# Altium footprint library wristband4.PcbLib: 8 footprints
Each footprint in its own frame and in the unit in brackets; x right, y up, seen from the top. Pads: shape width x height; smd on the part's side, far side on the other; paste and mask are expansions set on the pad; w line width, h text height; cw(c..) or ccw(c..) is an arc to the next point about the centre after c.
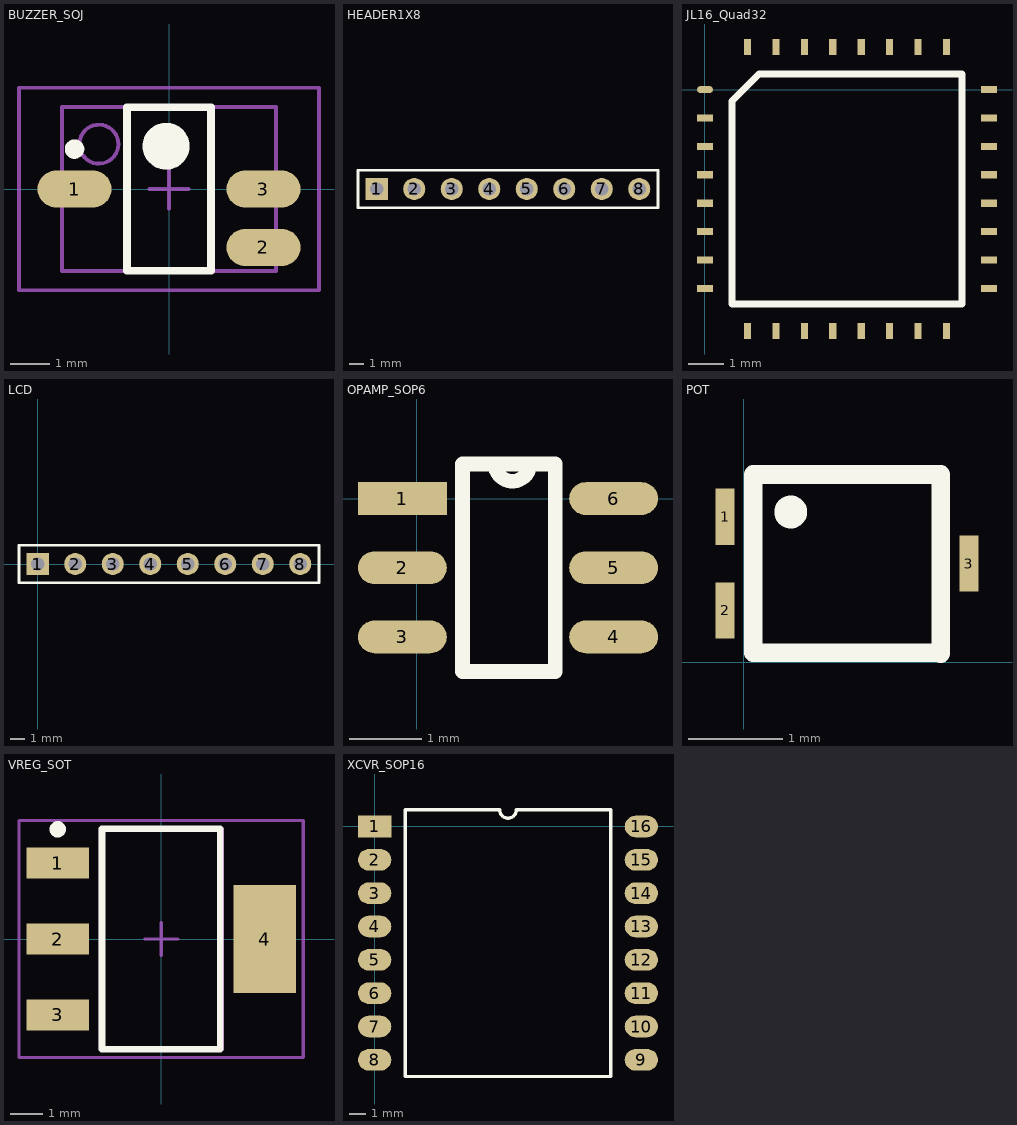
[diagram p0: the footprints below, top view; thin cyan lines are the x and y axes]

## BUZZER_SOJ [mm] "SOJ, 3-Leads, Body 4.2x5.5mm (max), Pitch 1.50mm, IPC Low Density"
height 2.1
pads (3):
  oval 1.9x0.95 smd: 1(-2.425,0) 2(2.425,-1.5) 3(2.425,0)
Top Overlay:
  circle w0.6: c-0.075,1.1 r0.3
  circle w0.25: c-2.425,1.025 r0.125
  lines w0.2: -1.075,-2.1 1.075,-2.1 1.075,2.1 -1.075,2.1 -1.075,-2.1
Mechanical 13:
  circle w0.1: c-1.8,1.15 r0.5
  lines w0.1: -2.75,-2.1 2.75,-2.1 2.75,2.1 -2.75,2.1 -2.75,-2.1
Mechanical 15:
  lines w0.1: -0.5,0 0.5,0 ; 0,-0.5 0,0.5 ; -3.85,-2.6 3.85,-2.6 3.85,2.6 -3.85,2.6 -3.85,-2.6
3D body: height 2.12, standoff 1.02, extent 1.202,0.5 2.198,1.498
3D body: height 2.1, standoff 0.64, extent -2.75,-2.1 2.75,2.1

## HEADER1X8 [mm]
pads (8):
  rect 1.5x1.5 hole 0.9: 1(233.413,-47.116)
  round 1.5 hole 0.9: 2(235.953,-47.116) 3(238.493,-47.116) 4(241.033,-47.116) 5(243.573,-47.116) 6(246.113,-47.116) 7(248.653,-47.116) 8(251.193,-47.116)
Top Overlay:
  lines w0.2: 232.143,-48.386 252.463,-48.386 252.463,-45.846 232.143,-45.846 232.143,-48.386

## JL16_Quad32 [mm]
height 1.6
pads (32):
  oval 0.45x0.2 smd: 1(0,0)
  rect 0.45x0.2 smd: 2(0,-0.8) 3(0,-1.6) 4(0,-2.4) 5(0,-3.2) 6(0,-4) 7(0,-4.8) 8(0,-5.6) 17(8,-5.6) 18(8,-4.8) 19(8,-4) 20(8,-3.2) 21(8,-2.4) 22(8,-1.6) 23(8,-0.8) 24(8,0)
  rect 0.2x0.45 smd: 9(1.2,-6.8) 10(2,-6.8) 11(2.8,-6.8) 12(3.6,-6.8) 13(4.4,-6.8) 14(5.2,-6.8) 15(6,-6.8) 16(6.8,-6.8) 25(6.8,1.2) 26(6,1.2) 27(5.2,1.2) 28(4.4,1.2) 29(3.6,1.2) 30(2.8,1.2) 31(2,1.2) 32(1.2,1.2)
Top Overlay:
  lines w0.2: 0.76,-6.04 7.24,-6.04 7.24,0.44 1.52,0.44 0.76,-0.32 0.76,-6.04
3D body: height 1.6, standoff 0, extent 0.3,-6.5 7.7,0.9

## LCD [mm] "Connector; Header; 8 Position"
pads (8):
  rect 1.5x1.5 hole 0.9: 1(0,0)
  round 1.5 hole 0.9: 2(2.54,0) 3(5.08,0) 4(7.62,0) 5(10.16,0) 6(12.7,0) 7(15.24,0) 8(17.78,0)
Top Overlay:
  lines w0.2: -1.27,-1.27 -1.27,1.27 19.05,1.27 19.05,-1.27 -1.27,-1.27
3D body: height 1, standoff 0, extent -0.375,39.702 1.219,41.298
3D body: height 1, standoff 0, extent 2.206,39.727 3.8,41.323
3D body: height 1, standoff 0, extent 5.128,39.725 6.722,41.322
3D body: height 1, standoff 0, extent 7.981,39.677 9.575,41.273
3D body: height 1, standoff 0, extent 10.803,39.7 12.397,41.297
3D body: height 1, standoff 0, extent 13.656,39.702 15.25,41.298
3D body: height 1, standoff 0, extent 16.628,39.725 18.222,41.322
3D body: height 1, standoff 0, extent -0.7,-0.8 0.894,0.797
3D body: height 1, standoff 0, extent 1.754,-0.8 3.348,0.797
3D body: height 1, standoff 0, extent 4.25,-0.8 5.844,0.797
3D body: height 1, standoff 0, extent 6.829,-0.8 8.423,0.797
3D body: height 1, standoff 0, extent 9.375,-0.8 10.969,0.797
3D body: height 1, standoff 0, extent 11.904,-0.775 13.498,0.822
3D body: height 1, standoff 0, extent 14.408,-0.822 16.002,0.775
3D body: height 1, standoff 0, extent 17.004,-0.8 18.598,0.797
3D body: height 1, standoff 0, extent -1,39.5 19,41.5
3D body: height 3.01, standoff 0, extent -9,11 27,38
3D body: height 3, standoff 0, extent -10,3 28,39
3D body: height 1, standoff 0, extent -13,-3 31,42
3D body: height 1, standoff 0, extent -1,-1 19,1
3D body: height 1, standoff 0, extent -0.7,-0.8 18.7,0.8
3D body: height 1, standoff 0, extent -0.7,39.7 18.7,41.3

## OPAMP_SOP6 [mm]
height 1
pads (6):
  rect 1.22x0.45 smd: 1(-0.2,0)
  oval 1.22x0.45 smd: 2(-0.2,-0.95) 3(-0.2,-1.9) 4(2.7,-1.9) 5(2.7,-0.95) 6(2.7,0)
Top Overlay:
  lines w0.2: 0.625,-2.375 1.9,-2.375 1.9,0.475 1.072,0.475 ccw(c1.31,0.475) 1.548,0.475 0.625,0.475 0.625,-2.375
3D body: height 1, standoff 0, extent 0.5,-2.5 2,0.6

## POT [mm] "490-2034-2-ND"
height 0.8
pads (3):
  rect 0.2x0.6 smd: 1(-0.2,1.55) 2(-0.2,0.55) 3(2.4,1.05)
Top Overlay:
  circle w0.25: c0.5,1.6 r0.05
  lines w0.2: 2.1,0.091 2.1,1.996 ; 2.1,0.1 0.1,0.1 0.1,2 2.1,2
3D body: height 0.8, standoff 0, extent 0.55,0.4 1.9,1.7
3D body: height 0.5, standoff 0, extent 0,0 2.2,2.1
3D body: height 0.8, standoff 0, extent 0.3,0.2 2.093,1.996
3D body: height 0.5, standoff 0, extent -0.2,1.3 0,1.8
3D body: height 0.5, standoff 0, extent -0.2,0.3 0,0.8
3D body: height 0.5, standoff 0, extent 2.2,0.8 2.4,1.3

## VREG_SOT [mm] "SOT223, 4-Leads, Body 6.7x7.3mm (max), Pitch 2.31mm, IPC Medium Density"
height 1.803
pads (4):
  rect 1.9x0.95 smd: 1(-3.15,2.311) 2(-3.15,0) 3(-3.15,-2.311)
  rect 1.9x3.3 smd: 4(3.15,0)
Top Overlay:
  circle w0.25: c-3.15,3.336 r0.125
  lines w0.2: -1.8,-3.353 1.8,-3.353 1.8,3.353 -1.8,3.353 -1.8,-3.353
Mechanical 13:
  lines w0.1: -1.854,-3.353 1.854,-3.353 1.854,3.353 -1.854,3.353 -1.854,-3.353
Mechanical 15:
  lines w0.1: -0.5,0 0.5,0 ; 0,-0.5 0,0.5 ; -4.325,-3.603 4.325,-3.603 4.325,3.603 -4.325,3.603 -4.325,-3.603
3D body: height 1.8, standoff 0.02, extent -1.854,-3.353 1.854,3.353

## XCVR_SOP16 [mm]
height 1.5
pads (16):
  rect 2x1.3 smd: 1(0,0)
  oval 2x1.3 smd: 2(0,-2) 3(0,-4) 4(0,-6) 5(0,-8) 6(0,-10) 7(0,-12) 8(0,-14) 9(16,-14) 10(16,-12) 11(16,-10) 12(16,-8) 13(16,-6) 14(16,-4) 15(16,-2) 16(16,0)
Top Overlay:
  lines w0.2: 1.835,-15 1.835,1 7.5,1 ccw(c8,1) 8.5,1 14.165,1 14.165,-15 1.835,-15
3D body: height 1.8, standoff 0, extent 11.4,-10 13.2,-5.5
3D body: height 1.27, standoff 0, extent 11.9,-13.5 13,0.3
3D body: height 1.8, standoff 0, extent 6.2,-12.6 10.7,-8.4
3D body: height 1.27, standoff 0, extent 4.9,-2.6 5.55,-2.4
3D body: height 1.27, standoff 0, extent 4.675,-1.9 5.55,-1.7
3D body: height 1.27, standoff 0, extent 4.9,-1.1 5.55,-0.9
3D body: height 1.27, standoff 0, extent 3,-1.9 3.925,-1.7
3D body: height 1.27, standoff 0, extent 3,-2.6 3.7,-2.4
3D body: height 1.27, standoff 0, extent 3,-1.1 3.7,-0.9
3D body: height 1.8, standoff 0, extent 3.7,-2.6 4.9,-0.9
3D body: height 1.8, standoff 0, extent 7.2,-6.2 8.2,-4.5
3D body: height 1.8, standoff 0, extent 8.5,-6.2 9.5,-4.5
3D body: height 1.8, standoff 0, extent 9.7,-6.2 10.7,-4.5
3D body: height 1.8, standoff 0, extent 9.7,-4.2 10.7,-2.5
3D body: height 1.8, standoff 0, extent 9.7,-2.2 10.7,-0.8
3D body: height 1.8, standoff 0, extent 8.5,-2.2 9.5,-0.8
3D body: height 1.8, standoff 0, extent 8.5,-0.6 10.1,0.3
3D body: height 1.8, standoff 0, extent 7.2,-2.7 8.2,-1.3
3D body: height 1.8, standoff 0, extent 7.2,-1.1 8.2,0.3
3D body: height 1.8, standoff 0, extent 6,-1.1 7,0.3
3D body: height 1.8, standoff 0, extent 4.1,-0.6 5.7,0.3
3D body: height 1.8, standoff 0, extent 1.7,-14.5 4,-13.4
3D body: height 1.8, standoff 0, extent 1.7,-13.1 4,-12.1
3D body: height 1.8, standoff 0, extent 1.7,-11.7 4,-10.7
3D body: height 1.8, standoff 0, extent 4.1,-10 5.1,-8.4
3D body: height 1.8, standoff 0, extent 2.8,-10 3.9,-8.4
3D body: height 1.8, standoff 0, extent 1.5,-10 2.6,-8.4
3D body: height 1.8, standoff 0, extent 4.1,-8 5.1,-6.4
3D body: height 1.8, standoff 0, extent 2.8,-8 3.9,-6.4
3D body: height 1.8, standoff 0, extent 1.5,-8 2.6,-6.4
3D body: height 1.8, standoff 0, extent 4.15,-3.9 6.05,-3
3D body: height 1.8, standoff 0, extent 4.15,-5 6.05,-4.1
3D body: height 1.8, standoff 0, extent 4.2,-6.05 6.1,-5.15
3D body: height 1.8, standoff 0, extent 2.8,-6 3.9,-4.2
3D body: height 1.8, standoff 0, extent 1.5,-6 2.6,-4.2
3D body: height 1.8, standoff 0, extent 1.475,-1.95 2.625,-0.375
3D body: height 1, standoff 0, extent 1,-15 15,1